# Altium footprint library SnapEDApcb.PcbLib: 1 footprints
Each footprint in its own frame and in the unit in brackets; x right, y up, seen from the top. Pads: shape width x height; smd on the part's side, far side on the other; paste and mask are expansions set on the pad; w line width, h text height; cw(c..) or ccw(c..) is an arc to the next point about the centre after c.
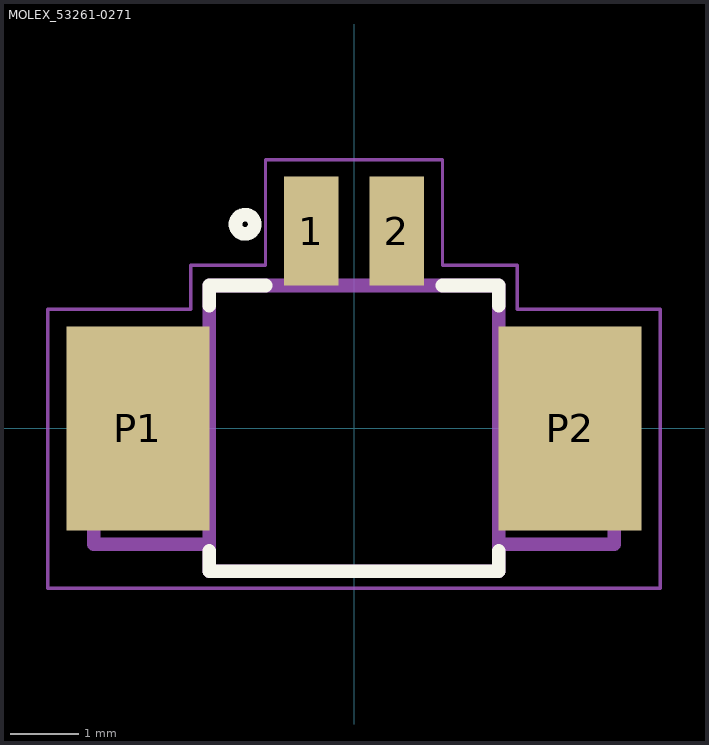
[diagram p0: the footprint, top view; thin cyan lines are the x and y axes]

## MOLEX_53261-0271 [mm]
pads (4):
  rect 0.8x1.6 smd: 1(-0.625,2.9) 2(0.625,2.9)
  rect 2.1x3 smd: P1(-3.175,0) P2(3.175,0)
Top Overlay:
  circle w0.2: c-1.6,3 r0.141
  lines w0.2: -2.125,-1.8 -2.125,-2.1 2.125,-2.1 2.125,-1.8 ; -2.125,1.8 -2.125,2.1 -1.3,2.1 ; 1.3,2.1 2.125,2.1 2.125,1.8
Mechanical 13:
  lines w0.2: -2.125,-1.7 -3.825,-1.7 -3.825,1.1 -2.125,1.1 ; -2.125,-1.7 -2.125,1.1 ; -2.125,-1.7 -2.125,-2.1 2.125,-2.1 2.125,-1.7 ; -2.125,1.1 -2.125,2.1 2.125,2.1 2.125,1.1 ; 2.125,-1.7 3.825,-1.7 3.825,1.1 2.125,1.1 ; 2.125,-1.7 2.125,1.1
Mechanical 15:
  lines w0.05: -4.5,-2.35 -4.5,1.75 -2.4,1.75 -2.4,2.4 -1.3,2.4 -1.3,3.95 1.3,3.95 1.3,2.4 2.4,2.4 2.4,1.75 4.5,1.75 4.5,-2.35 -4.5,-2.35
3D body "532610271.stp": height 3.23, standoff -0.17, extent -3.825,-2.118 3.825,3.082